# EAGLE library part PIC18F46K22 (library MCE_Microcontroladores)
PIC18F46K22
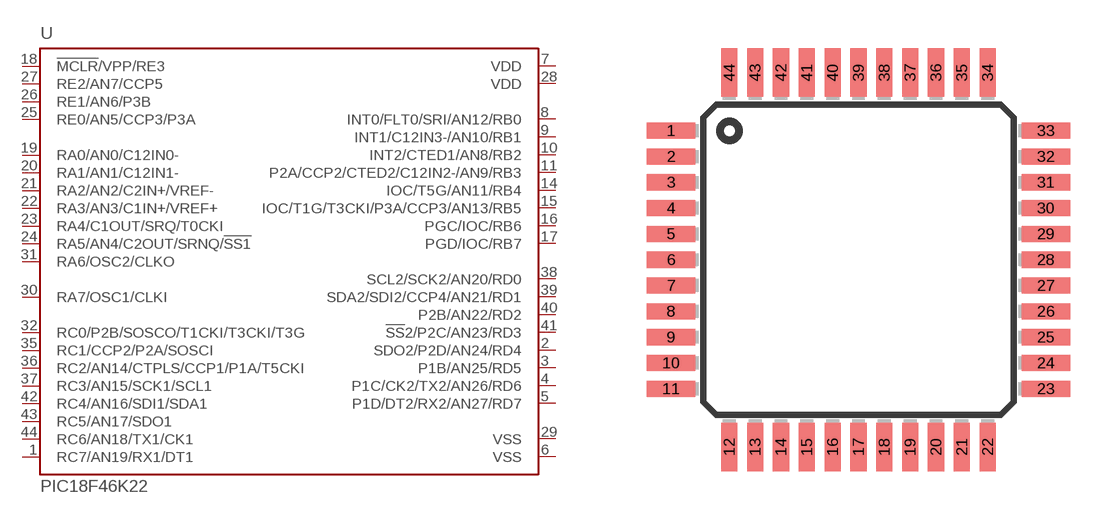
[diagram p7: symbol with the pads of TQFP44; footprint TQFP44]

Designator prefix U

## PIC18F46K22TQFP44  [TQFP44]
1  RC7/AN19/RX1/DT1
2  SDO2/P2D/AN24/RD4
3  P1B/AN25/RD5
4  P1C/CK2/TX2/AN26/RD6
5  P1D/DT2/RX2/AN27/RD7
6  VSS  pwr
7  VDD  pwr
8  INT0/FLT0/SRI/AN12/RB0
9  INT1/C12IN3-/AN10/RB1
10  INT2/CTED1/AN8/RB2
11  P2A/CCP2/CTED2/C12IN2-/AN9/RB3
14  IOC/T5G/AN11/RB4
15  IOC/T1G/T3CKI/P3A/CCP3/AN13/RB5
16  PGC/IOC/RB6
17  PGD/IOC/RB7
18  !MCLR!/VPP/RE3  in
19  RA0/AN0/C12IN0-
20  RA1/AN1/C12IN1-
21  RA2/AN2/C2IN+/VREF-
22  RA3/AN3/C1IN+/VREF+
23  RA4/C1OUT/SRQ/T0CKI
24  RA5/AN4/C2OUT/SRNQ/!SS1!
25  RE0/AN5/CCP3/P3A
26  RE1/AN6/P3B
27  RE2/AN7/CCP5
28  VDD  pwr
29  VSS  pwr
30  RA7/OSC1/CLKI  in
31  RA6/OSC2/CLKO  out
32  RC0/P2B/SOSCO/T1CKI/T3CKI/T3G
35  RC1/CCP2/P2A/SOSCI
36  RC2/AN14/CTPLS/CCP1/P1A/T5CKI
37  RC3/AN15/SCK1/SCL1
38  SCL2/SCK2/AN20/RD0
39  SDA2/SDI2/CCP4/AN21/RD1
40  P2B/AN22/RD2
41  !SS!2/P2C/AN23/RD3
42  RC4/AN16/SDI1/SDA1
43  RC5/AN17/SDO1
44  RC6/AN18/TX1/CK1

## Footprint TQFP44 (pad centres in mm)
Thin Quad Flat Pack package type TQ
smd 1.5 x 0.5: 1 -5.8,4; 2 -5.8,3.2; 3 -5.8,2.4; 4 -5.8,1.6; 5 -5.8,0.8; 6 -5.8,0; 7 -5.8,-0.8; 8 -5.8,-1.6; 9 -5.8,-2.4; 10 -5.8,-3.2; 11 -5.8,-4; 23 5.8,-4; 24 5.8,-3.2; 25 5.8,-2.4; 26 5.8,-1.6; 27 5.8,-0.8; 28 5.8,0; 29 5.8,0.8; 30 5.8,1.6; 31 5.8,2.4; 32 5.8,3.2; 33 5.8,4
smd 0.5 x 1.5: 12 -4,-5.8; 13 -3.2,-5.8; 14 -2.4,-5.8; 15 -1.6,-5.8; 16 -0.8,-5.8; 17 0,-5.8; 18 0.8,-5.8; 19 1.6,-5.8; 20 2.4,-5.8; 21 3.2,-5.8; 22 4,-5.8; 34 4,5.8; 35 3.2,5.8; 36 2.4,5.8; 37 1.6,5.8; 38 0.8,5.8; 39 0,5.8; 40 -0.8,5.8; 41 -1.6,5.8; 42 -2.4,5.8; 43 -3.2,5.8; 44 -4,5.8